# Altium schematic symbol library AS4C4M16SA-7TCN.Schlib: 1 symbol
Pins are listed as number, name and electrical type; pins without a type are passive.

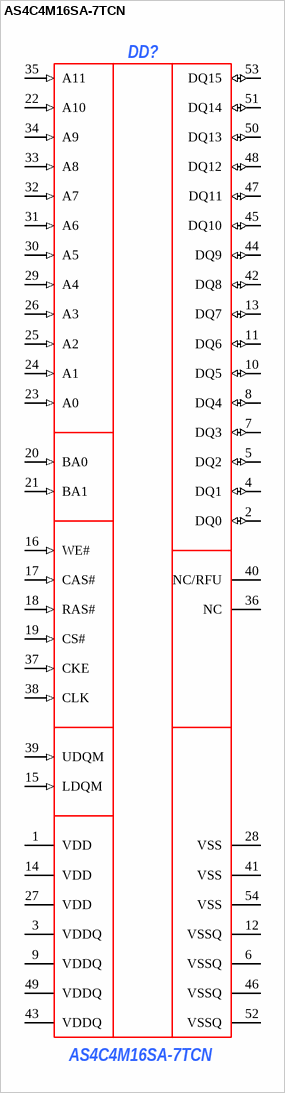
[diagram p0: symbol AS4C4M16SA-7TCN]

## AS4C4M16SA-7TCN
designator DD?
SDRAM 64 Mbit, 4 M x 16; ComponentLink1Description: *; ComponentLink1URL: *; ComponentLink2Description: *; ComponentLink2URL: *; ManufacturerPartNumber: AS4C4M16SA-7TCN; Power/Voltage: *; Rem: *; TKE: *; Tolerance: *; TU/GOST: *; Value: *; Корпус: *; Примечание: *; Manufacturer: *; Author: *; Type: *
footprint TSOP 54 (TSOP, 54-Leads, Body 22,22x10,16mm, Pitch 0,80mm, IPC Medium Density)
pins: 1 VDD (power), 2 DQ0 (io), 3 VDDQ (power), 4 DQ1 (io), 5 DQ2 (io), 6 VSSQ (power), 7 DQ3 (io), 8 DQ4 (io), 9 VDDQ (power), 10 DQ5 (io), 11 DQ6 (io), 12 VSSQ (power), 13 DQ7 (io), 14 VDD (power), 15 LDQM (in), 16 WE# (in), 17 CAS# (in), 18 RAS# (in), 19 CS# (in), 20 BA0 (in), 21 BA1 (in), 22 A10 (in), 23 A0 (in), 24 A1 (in), 25 A2 (in), 26 A3 (in), 27 VDD (power), 28 VSS (power), 29 A4 (in), 30 A5 (in), 31 A6 (in), 32 A7 (in), 33 A8 (in), 34 A9 (in), 35 A11 (in), 36 NC, 37 CKE (in), 38 CLK (in), 39 UDQM (in), 40 NC/RFU, 41 VSS (power), 42 DQ8 (io), 43 VDDQ (power), 44 DQ9 (io), 45 DQ10 (io), 46 VSSQ (power), 47 DQ11 (io), 48 DQ12 (io), 49 VDDQ (power), 50 DQ13 (io), 51 DQ14 (io), 52 VSSQ (power), 53 DQ15 (io), 54 VSS (power)